# Altium footprint library FlightController_PcbLib1.PcbLib: 10 footprints
Each footprint in its own frame and in the unit in brackets; x right, y up, seen from the top. Pads: shape width x height; smd on the part's side, far side on the other; paste and mask are expansions set on the pad; w line width, h text height; cw(c..) or ccw(c..) is an arc to the next point about the centre after c.
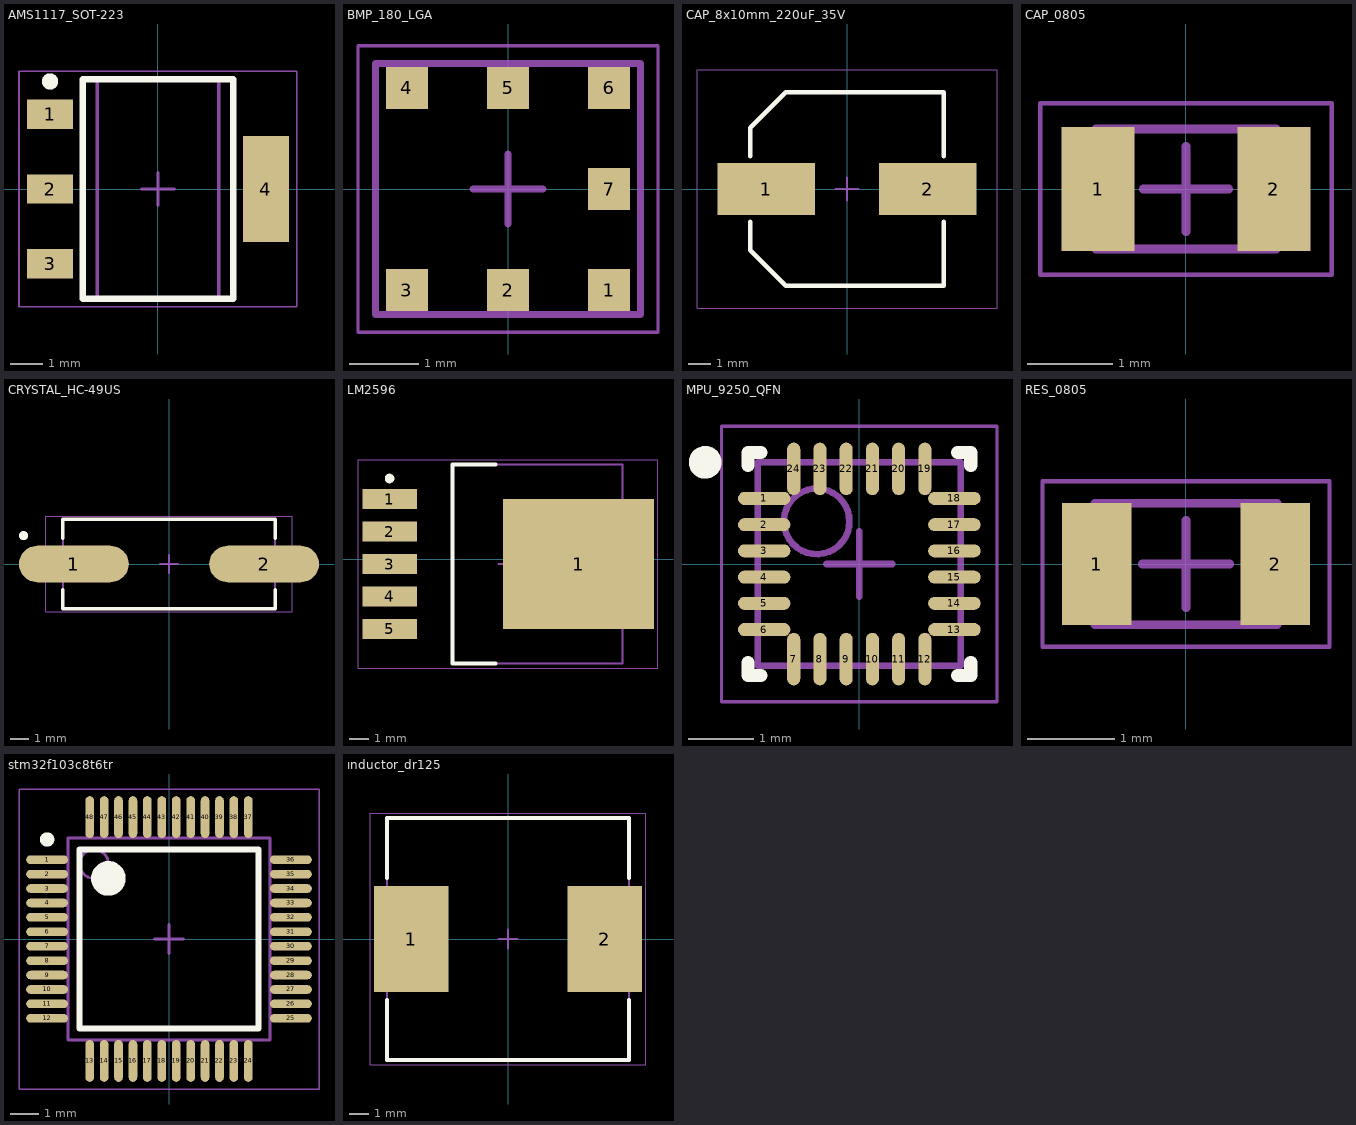
[diagram p0: the footprints below, top view; thin cyan lines are the x and y axes]

## AMS1117_SOT-223 [mm] "SOT223, 4-Leads, Body 6,51x7,00mm (avg), Pitch 2,29mm, IPC Medium Density"
height 1.8
pads (4):
  rect 1.4x0.9 smd: 1(-3.3,2.29) 2(-3.3,0) 3(-3.3,-2.29)
  rect 1.4x3.25 smd: 4(3.3,0)
Top Overlay:
  circle w0.25: c-3.3,3.29 r0.125
  lines w0.2: -2.3,-3.35 -2.3,3.35 2.3,3.35 2.3,-3.35 -2.3,-3.35
Mechanical 13:
  lines w0.1: -1.855,-3.355 -1.855,3.355 1.855,3.355 1.855,-3.355 -1.855,-3.355
Mechanical 15:
  lines w0.05: -4.25,-3.6 -4.25,3.6 4.25,3.6 4.25,-3.6 -4.25,-3.6
  lines w0.1: -0.5,0 0.5,0 ; 0,-0.5 0,0.5
3D body "AMS1117_SOT-223.step": height 1.8, standoff 0, extent -3.545,-3.355 3.545,3.355

## BMP_180_LGA [mm] "LGA, 9-Leads, Body 3,80x3,60mmx1,00mm, Pitch 1,45mm"
height 1
pads (7):
  rect 0.6x0.6 smd: 1(1.45,-1.45) 2(0,-1.45) 3(-1.45,-1.45) 4(-1.45,1.45) 5(0,1.45) 6(1.45,1.45) 7(1.45,0)
Mechanical 13:
  lines w0.1: -1.9,-1.8 -1.9,1.8 1.9,1.8 1.9,-1.8 -1.9,-1.8
Mechanical 15:
  lines w0.05: -2.15,-2.05 -2.15,2.05 2.15,2.05 2.15,-2.05 -2.15,-2.05
  lines w0.1: -0.5,0 0.5,0 ; 0,-0.5 0,0.5
3D body "BMP_180_LGA.step": height 1, standoff 0, extent -1.95,-1.85 1.95,1.85

## CAP_8x10mm_220uF_35V [mm] "Aluminum Electrolytic Capacitor, Body 8,30x8,30x10,50mm, IPC Low Density"
height 10.5
pads (2):
  rect 4.3x2.3 smd: 1(-3.55,0) 2(3.55,0)
Top Overlay:
  lines w0.2: -4.25,-1.45 -4.25,-2.7 -2.7,-4.25 4.25,-4.25 4.25,-1.45 ; -4.25,1.45 -4.25,2.7 -2.7,4.25 4.25,4.25 4.25,1.45
Mechanical 15:
  lines w0.05: -6.6,-5.25 6.6,-5.25 6.6,5.25 -6.6,5.25 -6.6,-5.25
  lines w0.1: -0.5,0 0.5,0 ; 0,-0.5 0,0.5
3D body "CAP_8x10mm_220uF_35V.step": height 10.5, standoff 0, extent -4.5,-4.25 4.5,4.25

## CAP_0805 [mm]
height 0.55
pads (2):
  rect 0.85x1.45 smd: 1(-1.025,0) 2(1.025,0)
Mechanical 13:
  lines w0.1: -1.05,-0.7 -1.05,0.7 1.05,0.7 1.05,-0.7 -1.05,-0.7
Mechanical 15:
  lines w0.05: -1.7,-1 -1.7,1 1.7,1 1.7,-1 -1.7,-1
  lines w0.1: -0.5,0 0.5,0 ; 0,-0.5 0,0.5
3D body: height 0.55, standoff 0, extent -0.7,-0.7 0.7,0.7
3D body: height 0.55, standoff 0, extent -1.05,-0.7 -0.7,0.7
3D body: height 0.55, standoff 0, extent 0.7,-0.7 1.05,0.7

## CRYSTAL_HC-49US [mm] "SODFL, 2-Leads, Body 4,70x12,30mm, IPC Medium Density"
height 4.2
pads (2):
  oval 6x2 smd: 1(-5.2,0) 2(5.2,0)
Top Overlay:
  circle w0.25: c-7.95,1.55 r0.125
  lines w0.2: -5.8,-1.4 -5.8,-2.45 5.8,-2.45 5.8,-1.4 ; -5.8,1.4 -5.8,2.45 5.8,2.45 5.8,1.4
Mechanical 13:
  lines w0.1: -5.8,-2.45 -5.8,2.45 5.8,2.45 5.8,-2.45 -5.8,-2.45
Mechanical 15:
  lines w0.05: -6.75,-2.6 -6.75,2.6 6.75,2.6 6.75,-2.6 -6.75,-2.6
  lines w0.1: -0.5,0 0.5,0 ; 0,-0.5 0,0.5
3D body "CRYSTAL_HC-49US.step": height 4.2, standoff 0, extent -6.15,-2.45 6.15,2.45

## LM2596 [mm] "D2-PAK, 6-Pads, Body 7,55x8,57mm (max), IPC Medium Density"
height 4.6
pads (6):
  rect 2.85x1.05 smd: 1(-16.106,3.146) 2(-16.106,1.446) 3(-16.106,-0.254) 4(-16.106,-1.954) 5(-16.106,-3.654)
  rect 7.9x6.8 smd: 1(-6.206,-0.254)
Top Overlay:
  circle w0.25: c-16.106,4.221 r0.125
  lines w0.2: -10.556,-5.454 -12.806,-5.454 -12.806,4.946 -10.556,4.946
Mechanical 13:
  lines w0.1: -12.806,-5.454 -3.916,-5.454 -3.916,4.946 -12.806,4.946 -12.806,-5.454
Mechanical 15:
  lines w0.05: -17.756,-5.704 -2.056,-5.704 -2.056,5.196 -17.756,5.196 -17.756,-5.704
  lines w0.1: -10.406,-0.254 -9.406,-0.254 ; -9.906,-0.754 -9.906,0.246
3D body "LM2596.step": height 4.7, standoff 0, extent -16.581,-5.454 -2.231,4.946

## MPU_9250_QFN [mm]
height 1.05
pads (24):
  oval 0.8x0.2 smd: 1(-1.45,1) 2(-1.45,0.6) 3(-1.45,0.2) 4(-1.45,-0.2) 5(-1.45,-0.6) 6(-1.45,-1) 13(1.45,-1) 14(1.45,-0.6) 15(1.45,-0.2) 16(1.45,0.2) 17(1.45,0.6) 18(1.45,1)
  oval 0.2x0.8 smd: 7(-1,-1.45) 8(-0.6,-1.45) 9(-0.2,-1.45) 10(0.2,-1.45) 11(0.6,-1.45) 12(1,-1.45) 19(1,1.45) 20(0.6,1.45) 21(0.2,1.45) 22(-0.2,1.45) 23(-0.6,1.45) 24(-1,1.45)
Top Overlay:
  circle w0.25: c-2.35,1.55 r0.125
  lines w0.2: -1.7,-1.5 -1.7,-1.7 -1.5,-1.7 ; -1.7,1.5 -1.7,1.7 -1.5,1.7 ; 1.5,-1.7 1.7,-1.7 1.7,-1.5 ; 1.5,1.7 1.7,1.7 1.7,1.5
Mechanical 13:
  circle w0.1: c-0.65,0.65 r0.5
  lines w0.1: -1.55,-1.55 -1.55,1.55 1.55,1.55 1.55,-1.55 -1.55,-1.55
Mechanical 15:
  lines w0.05: -2.1,-2.1 -2.1,2.1 2.1,2.1 2.1,-2.1 -2.1,-2.1
  lines w0.1: -0.5,0 0.5,0 ; 0,-0.5 0,0.5
3D body: height 1.05, standoff 0.01, extent -1.55,-1.55 1.55,1.55

## RES_0805 [mm] "Chip Resistor, 2-Leads, Body 2,00x1,25mm, IPC Medium Density"
height 0.55
pads (2):
  rect 0.8x1.4 smd: 1(-1.025,0) 2(1.025,0)
Mechanical 13:
  lines w0.1: -1.05,-0.7 -1.05,0.7 1.05,0.7 1.05,-0.7 -1.05,-0.7
Mechanical 15:
  lines w0.05: -1.65,-0.95 -1.65,0.95 1.65,0.95 1.65,-0.95 -1.65,-0.95
  lines w0.1: -0.5,0 0.5,0 ; 0,-0.5 0,0.5
3D body "RES_0805.step": height 0.55, standoff 0, extent -1.05,-0.7 1.05,0.7

## stm32f103c8t6tr [mm]
height 1.6
pads (48):
  oval 1.45x0.3 smd: 1(-4.225,2.75) 2(-4.225,2.25) 3(-4.225,1.75) 4(-4.225,1.25) 5(-4.225,0.75) 6(-4.225,0.25) 7(-4.225,-0.25) 8(-4.225,-0.75) 9(-4.225,-1.25) 10(-4.225,-1.75) 11(-4.225,-2.25) 12(-4.225,-2.75) 25(4.225,-2.75) 26(4.225,-2.25) 27(4.225,-1.75) 28(4.225,-1.25) 29(4.225,-0.75) 30(4.225,-0.25) 31(4.225,0.25) 32(4.225,0.75) 33(4.225,1.25) 34(4.225,1.75) 35(4.225,2.25) 36(4.225,2.75)
  oval 0.3x1.45 smd: 13(-2.75,-4.225) 14(-2.25,-4.225) 15(-1.75,-4.225) 16(-1.25,-4.225) 17(-0.75,-4.225) 18(-0.25,-4.225) 19(0.25,-4.225) 20(0.75,-4.225) 21(1.25,-4.225) 22(1.75,-4.225) 23(2.25,-4.225) 24(2.75,-4.225) 37(2.75,4.225) 38(2.25,4.225) 39(1.75,4.225) 40(1.25,4.225) 41(0.75,4.225) 42(0.25,4.225) 43(-0.25,4.225) 44(-0.75,4.225) 45(-1.25,4.225) 46(-1.75,4.225) 47(-2.25,4.225) 48(-2.75,4.225)
Top Overlay:
  circle w0.6: c-2.1,2.1 r0.3
  circle w0.25: c-4.225,3.45 r0.125
  lines w0.2: -3.1,-3.1 3.1,-3.1 3.1,3.1 -3.1,3.1 -3.1,-3.1
Mechanical 13:
  circle w0.1: c-2.6,2.6 r0.5
  lines w0.1: -3.5,-3.5 3.5,-3.5 3.5,3.5 -3.5,3.5 -3.5,-3.5
Mechanical 15:
  lines w0.05: -5.2,-5.2 5.2,-5.2 5.2,5.2 -5.2,5.2 -5.2,-5.2
  lines w0.1: -0.5,0 0.5,0 ; 0,-0.5 0,0.5
3D body "QFP127P600-8N.step": height 1.6, standoff 0, extent -4.5,-4.5 4.5,4.5

## ınductor_dr125 [mm] "Precision Wire Wound Inductor, 2-Leads, Body 12,50x12,50mm, IPC Medium Density"
height 6
pads (2):
  rect 3.85x5.5 smd: 1(-5,0) 2(5,0)
Top Overlay:
  lines w0.2: -6.25,-3.15 -6.25,-6.25 6.25,-6.25 6.25,-3.15 ; -6.25,3.15 -6.25,6.25 6.25,6.25 6.25,3.15
Mechanical 13:
  lines w0.1: -6.25,-6.25 -6.25,6.25 6.25,6.25 6.25,-6.25 -6.25,-6.25
Mechanical 15:
  lines w0.05: -7.125,-6.5 -7.125,6.5 7.125,6.5 7.125,-6.5 -7.125,-6.5
  lines w0.1: -0.5,0 0.5,0 ; 0,-0.5 0,0.5
3D body: height 6, standoff 0, extent -6.25,-6.25 6.25,6.25